# Altium footprint library Atmegas.PcbLib: 21 footprints (part 1 of 2)
Each footprint in its own frame and in the unit in brackets; x right, y up, seen from the top. Pads: shape width x height; smd on the part's side, far side on the other; paste and mask are expansions set on the pad; w line width, h text height; cw(c..) or ccw(c..) is an arc to the next point about the centre after c.
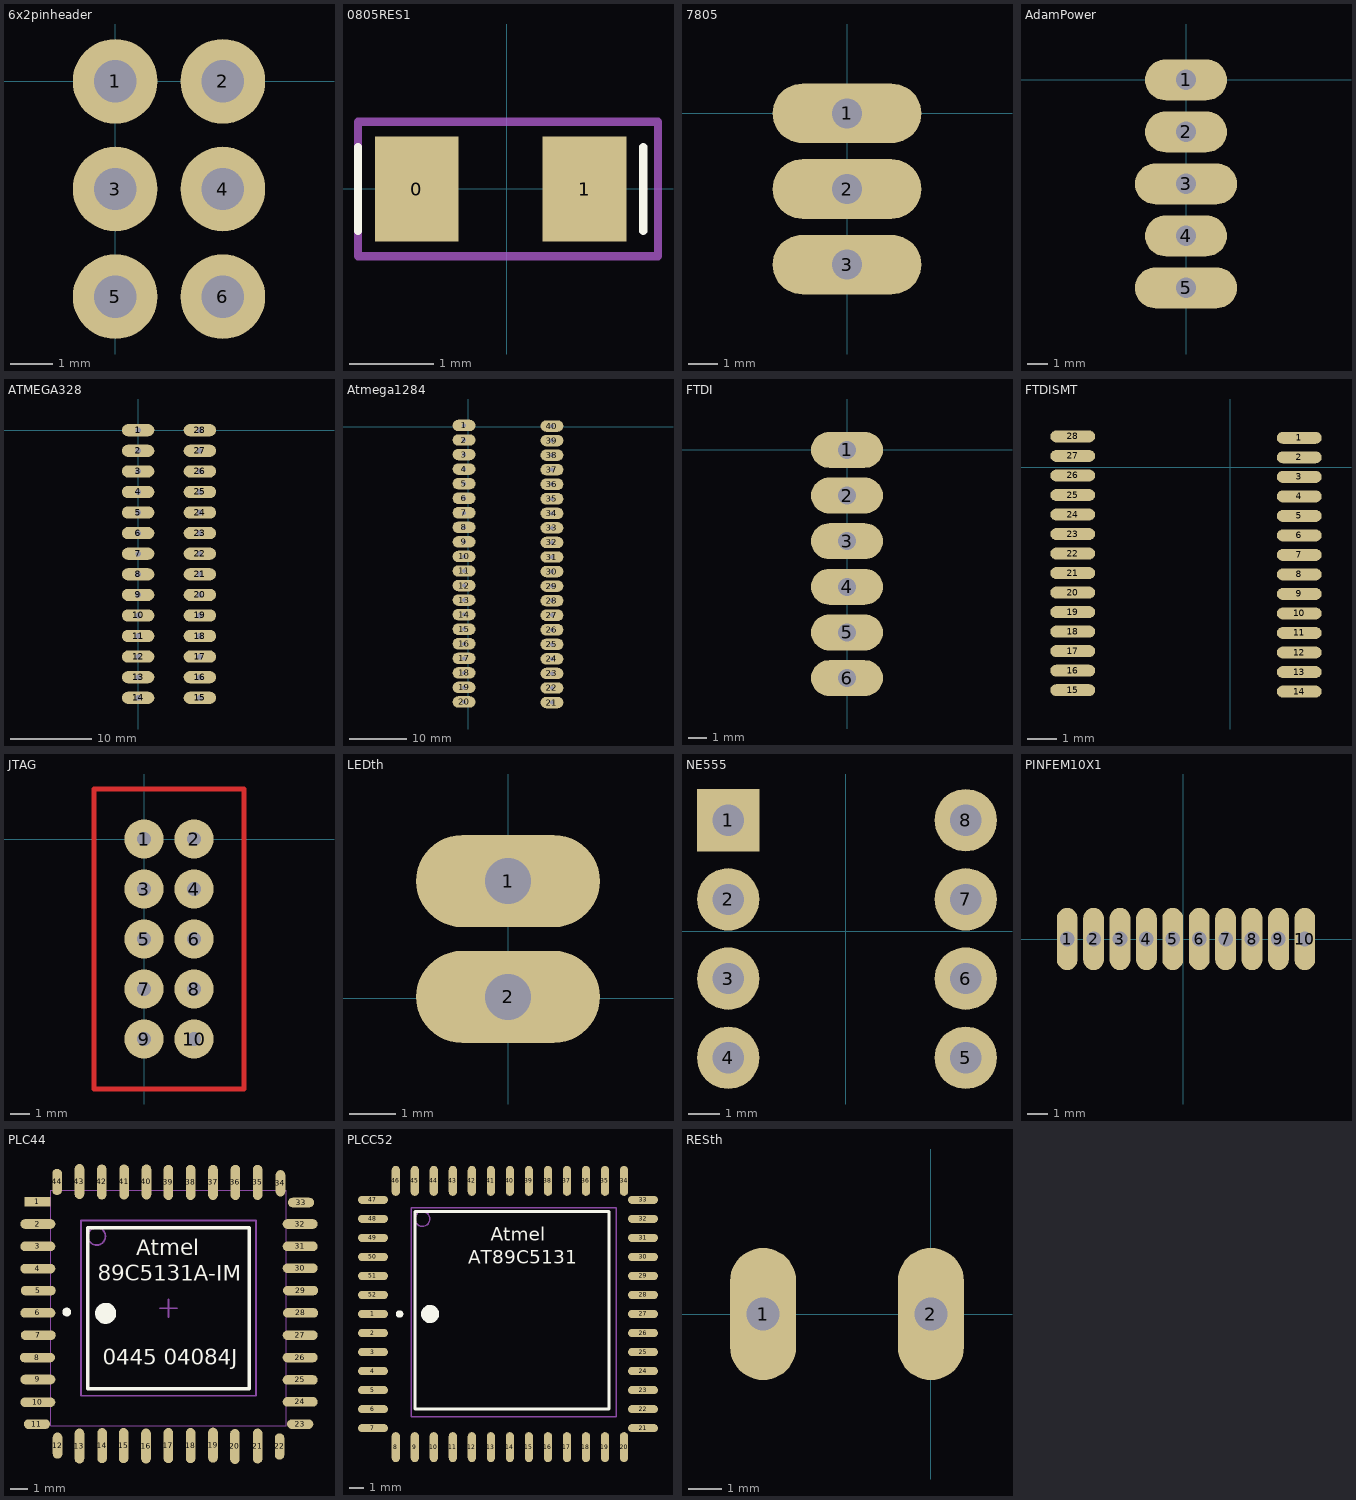
[diagram p0: the footprints below, top view; thin cyan lines are the x and y axes]

## 6x2pinheader [mm] "ETF 6x2 pin header"
height 10
pads (6):
  round 2 hole 1: 1(0,0) 2(2.54,0) 3(0,-2.54) 4(2.54,-2.54) 5(0,-5.08) 6(2.54,-5.08)
3D body "6x2header.stp": height 9.75, standoff -2.4, extent -1.29,-6.36 3.79,1.26

## 0805RES1 [mm]
pads (2):
  rect 1x1.25 smd: 0(-1.075,0) 1(0.925,0)
Top Overlay:
  lines w0.1: -1.775,-0.5 -1.775,0.5 ; 1.625,-0.5 1.625,0.5
Mechanical 13:
  lines w0.1: -1.775,-0.8 1.8,-0.8 1.8,0.8 -1.775,0.8 -1.775,-0.8
  text "'.Designator'" at -1.65,-0.6 h0.4
3D body "User Library-R_0805.STEP": height 0.5, standoff 0, extent -1.05,-0.625 0.95,0.625

## 7805 [mm] "7805 Voltage Regulator"
pads (3):
  oval 5x2 hole 1: 1(0,0) 2(0,-2.54) 3(0,-5.08)
3D body "7805cv.stp": height 18.5, standoff -10.4, extent -1.575,-7.675 2.925,2.525

## AdamPower [mm] "Adam Custom ETF Power Connector"
pads (5):
  oval 4x2 hole 1: 1(0,0) 2(0,-2.54) 4(0,-7.62)
  oval 5x2 hole 1: 3(0,-5.08) 5(0,-10.16)
Top Layer:
  text "+15V" at 5.4,-5.8 h1.52
  text "GND" at 5.4,-10.6 h1.52
  text "PIN1" at 5.5,-0.8 h1.52
3D body "STIFTLIST5ENKEL.stp": height 9.35, standoff -2.77, extent -1.225,-11.425 1.275,1.275

## ATMEGA328 [mm]
pads (28):
  oval 4x1.5 hole 0.7 unplated: 1(0,0) 2(0,-2.54) 3(0,-5.08) 4(0,-7.62) 5(0,-10.16) 6(0,-12.7) 7(0,-15.24) 8(0,-17.78) 9(0,-20.32) 10(0,-22.86) 11(0,-25.4) 12(0,-27.94) 13(0,-30.48) 14(0,-33.02) 15(7.62,-33.02) 16(7.62,-30.48) 17(7.62,-27.94) 18(7.62,-25.4) 19(7.62,-22.86) 20(7.62,-20.32) 21(7.62,-17.78) 22(7.62,-15.24) 23(7.62,-12.7) 24(7.62,-10.16) 25(7.62,-7.62) 26(7.62,-5.08) 27(7.62,-2.54) 28(7.62,0)
3D body "DIP-28-small.step": height 4.65, standoff -1.57, extent -0.025,-34.421 7.849,1.521

## Atmega1284 [mm] "Atmega Cool Microcontroller Yo"
pads (40):
  oval 4x2 hole 0.7 unplated: 1(-0.762,0.254) 2(-0.762,-2.286) 3(-0.762,-4.826) 4(-0.762,-7.366) 5(-0.762,-9.906) 6(-0.762,-12.446) 7(-0.762,-14.986) 8(-0.762,-17.526) 9(-0.762,-20.066) 10(-0.762,-22.606) 11(-0.762,-25.146) 12(-0.762,-27.686) 13(-0.762,-30.226) 14(-0.762,-32.766) 15(-0.762,-35.306) 16(-0.762,-37.846) 17(-0.762,-40.386) 18(-0.762,-42.926) 19(-0.762,-45.466) 20(-0.762,-48.006) 21(14.588,-48.104) 22(14.588,-45.564) 23(14.588,-43.024) 24(14.588,-40.484) 25(14.588,-37.944) 26(14.588,-35.404) 27(14.588,-32.864) 28(14.588,-30.324) 29(14.588,-27.784) 30(14.588,-25.244) 31(14.588,-22.704) 32(14.588,-20.164) 33(14.588,-17.624) 34(14.588,-15.084) 35(14.588,-12.544) 36(14.588,-10.004) 37(14.588,-7.464) 38(14.588,-4.924) 39(14.588,-2.384) 40(14.588,0.156)
3D body "DIP40.stp": height 4.8, standoff -2.57, extent -1.875,-49.475 15.825,1.325

## FTDI [mm]
pads (6):
  oval 4x2 hole 1 unplated: 1(0,0) 2(0,-2.54) 3(0,-5.08) 4(0,-7.62) 5(0,-10.16) 6(0,-12.7)
Top Layer:
  text "DTR / RX / TX / VCC / CTS / GND" at 4.8,-13.5 h1.52

## FTDISMT [mm] "ETF FTDI"
pads (28):
  oval 1.52x0.4 smd: 1(2.338,0.995) 2(2.338,0.335) 3(2.338,-0.325) 4(2.338,-0.985) 5(2.338,-1.645) 6(2.338,-2.305) 7(2.338,-2.965) 8(2.338,-3.625) 9(2.338,-4.285) 10(2.338,-4.945) 11(2.338,-5.605) 12(2.338,-6.265) 13(2.338,-6.925) 14(2.338,-7.585) 15(-5.322,-7.538) 16(-5.322,-6.878) 17(-5.322,-6.218) 18(-5.322,-5.558) 19(-5.322,-4.898) 20(-5.322,-4.238) 21(-5.322,-3.578) 22(-5.322,-2.918) 23(-5.322,-2.258) 24(-5.322,-1.598) 25(-5.322,-0.938) 26(-5.322,-0.278) 27(-5.322,0.382) 28(-5.322,1.042)
3D body "FTDI 28 pin ft232rl.stp": height 1.35, standoff -0.5, extent -5.425,-8.4 2.375,1.8

## JTAG [mm]
pads (10):
  round 2 hole 0.7 unplated: 1(0,0) 2(2.54,0) 3(0,-2.54) 4(2.54,-2.54) 5(0,-5.08) 6(2.54,-5.08) 7(0,-7.62) 8(2.54,-7.62) 9(0,-10.16) 10(2.54,-10.16)
Top Layer:
  lines w0.254: -2.54,-12.7 -2.54,2.54 5.08,2.54 5.08,-12.7 -2.54,-12.7

## LEDth [mm]
pads (2):
  oval 4x2 hole 1 unplated: 1(0,2.54) 2(0,0.025)
3D body "5MM LED RED.step": height 8.6, standoff -5, extent -2.575,-1.325 2.525,3.775

## NE555 [mm] "ETF NE555"
pads (8):
  rect 2x2 hole 1: 1(-3.762,3.556)
  round 2 hole 1: 2(-3.762,1.016) 3(-3.762,-1.524) 4(-3.762,-4.064) 5(3.858,-4.064) 6(3.858,-1.524) 7(3.858,1.016) 8(3.858,3.556)
3D body "User Library-DIP8test.STEP": height 4.57, standoff -3.81, extent -3.952,-5.099 3.868,4.811

## PCBComponent_1 [mm]

## PINFEM10X1 [mm] "Pin Female Header 10x1"
pads (10):
  oval 1x3 hole 0.7: 1(-5.588,0) 2(-4.318,0) 3(-3.048,0) 4(-1.778,0) 5(-0.508,0) 6(0.762,0) 7(2.032,0) 8(3.302,0) 9(4.572,0) 10(5.842,0)
3D body "PIN-Header-1_27-female_1x10.step": height 4.35, standoff -2.8, extent -6.604,-0.794 6.796,1.016

## PLC44 [mm] "ETF PLC Socket for Atmega 44 pin"
pads (44):
  rect 1.5x0.55 smd: 1(4.725,19)
  oval 2x0.55 smd: 2(4.75,17.725) 3(4.75,16.45) 4(4.75,15.175) 5(4.775,13.925) 6(4.75,12.65) 7(4.775,11.375) 8(4.725,10.1) 9(4.75,8.85) 10(4.75,7.55) 24(19.725,7.575) 25(19.725,8.825) 26(19.725,10.1) 27(19.725,11.375) 28(19.75,12.65) 29(19.75,13.925) 30(19.725,15.2) 31(19.725,16.45) 32(19.725,17.725)
  oval 1.5x0.55 smd: 11(4.7,6.3) 23(19.725,6.3) 33(19.775,18.95)
  oval 0.55x1.5 smd: 12(5.875,5.075) 22(18.55,5.025) 34(18.6,20.05) 44(5.85,20.125)
  oval 0.55x2 smd: 13(7.125,5.05) 14(8.425,5.075) 15(9.65,5.075) 16(10.925,5.05) 17(12.2,5.075) 18(13.475,5.075) 19(14.75,5.1) 20(16,5.025) 21(17.3,5.05) 35(17.3,20.1) 36(16.025,20.1) 37(14.75,20.1) 38(13.475,20.1) 39(12.2,20.1) 40(10.95,20.125) 41(9.675,20.125) 42(8.4,20.125) 43(7.125,20.15)
Top Layer:
  text "Model 44pin PLCC" at 6.5,6.821 h1.52
  text "All pins bad order" at 6.825,22.096 h1.52
Top Overlay:
  circle w0.6: c8.625,12.625 r0.3
  circle w0.25: c6.4,12.7 r0.125
  lines w0.2: 7.61,8.322 16.81,8.322 16.81,17.522 7.61,17.522 7.61,8.322
  text "0445 04084J" at 8.45,9.367 h1.52
  text "Atmel" at 10.375,15.641 h1.52
  text "89C5131A-IM" at 8.175,14.167 h1.52
Mechanical 13:
  circle w0.1: c8.11,17.022 r0.5
  lines w0.1: 7.21,7.922 17.21,7.922 17.21,17.922 7.21,17.922 7.21,7.922
Mechanical 15:
  lines w0.05: 5.485,6.197 18.935,6.197 18.935,19.647 5.485,19.647 5.485,6.197
  lines w0.1: 11.71,12.922 12.71,12.922 ; 12.21,12.422 12.21,13.422
3D body "plc44.stp": height 4.36, standoff -0.29, extent 0.6,1.093 23.69,24.207

## PLCC52 [mm]
pads (52):
  oval 2x0.55 smd: 1(6.096,16.002) 2(6.096,14.732) 3(6.096,13.462) 4(6.096,12.192) 5(6.096,10.922) 6(6.096,9.652) 7(6.096,8.382) 21(24.13,8.382) 22(24.13,9.652) 23(24.13,10.922) 24(24.13,12.192) 25(24.13,13.462) 26(24.13,14.732) 27(24.13,16.002) 28(24.13,17.272) 29(24.13,18.542) 30(24.13,19.812) 31(24.13,21.082) 32(24.13,22.352) 33(24.13,23.622) 47(6.096,23.622) 48(6.096,22.352) 49(6.096,21.082) 50(6.096,19.812) 51(6.096,18.542) 52(6.096,17.272)
  oval 0.55x2 smd: 8(7.62,7.112) 9(8.89,7.112) 10(10.16,7.112) 11(11.43,7.112) 12(12.7,7.112) 13(13.97,7.112) 14(15.24,7.112) 15(16.51,7.112) 16(17.78,7.112) 17(19.05,7.112) 18(20.32,7.112) 19(21.59,7.112) 20(22.86,7.112) 34(22.86,24.892) 35(21.59,24.892) 36(20.32,24.892) 37(19.05,24.892) 38(17.78,24.892) 39(16.51,24.892) 40(15.24,24.892) 41(13.97,24.892) 42(12.7,24.892) 43(11.43,24.892) 44(10.16,24.892) 45(8.89,24.892) 46(7.62,24.892)
Top Overlay:
  circle w0.25: c7.874,16.002 r0.125
  circle w0.6: c9.906,16.002 r0.3
  lines w0.2: 8.89,9.652 8.89,22.86 21.844,22.86 21.844,9.652 8.89,9.652
  text "Atmel" at 13.97,20.59 h1.52
  text "AT89C5131" at 12.446,19.067 h1.52
Mechanical 13:
  circle w0.1: c9.398,22.352 r0.5
  lines w0.1: 8.636,9.144 8.636,23.114 22.352,23.114 22.352,9.144 8.636,9.144
3D body "plcc52.stp": height 4.56, standoff -0.09, extent 2.323,3.301 27.953,28.956

## RESth [mm]
pads (2):
  oval 2x4 hole 1 unplated: 1(-5.08,0) 2(0,0)
3D body "METAL FILM RESISTOR.step": height 10.7, standoff -8.6, extent -5.3,-1.15 1.15,1.15